# Altium footprint library Sheye-Connector.PcbLib: 137 footprints (part 5 of 9)
Each footprint in its own frame and in the unit in brackets; x right, y up, seen from the top. Pads: shape width x height; smd on the part's side, far side on the other; paste and mask are expansions set on the pad; w line width, h text height; cw(c..) or ccw(c..) is an arc to the next point about the centre after c.
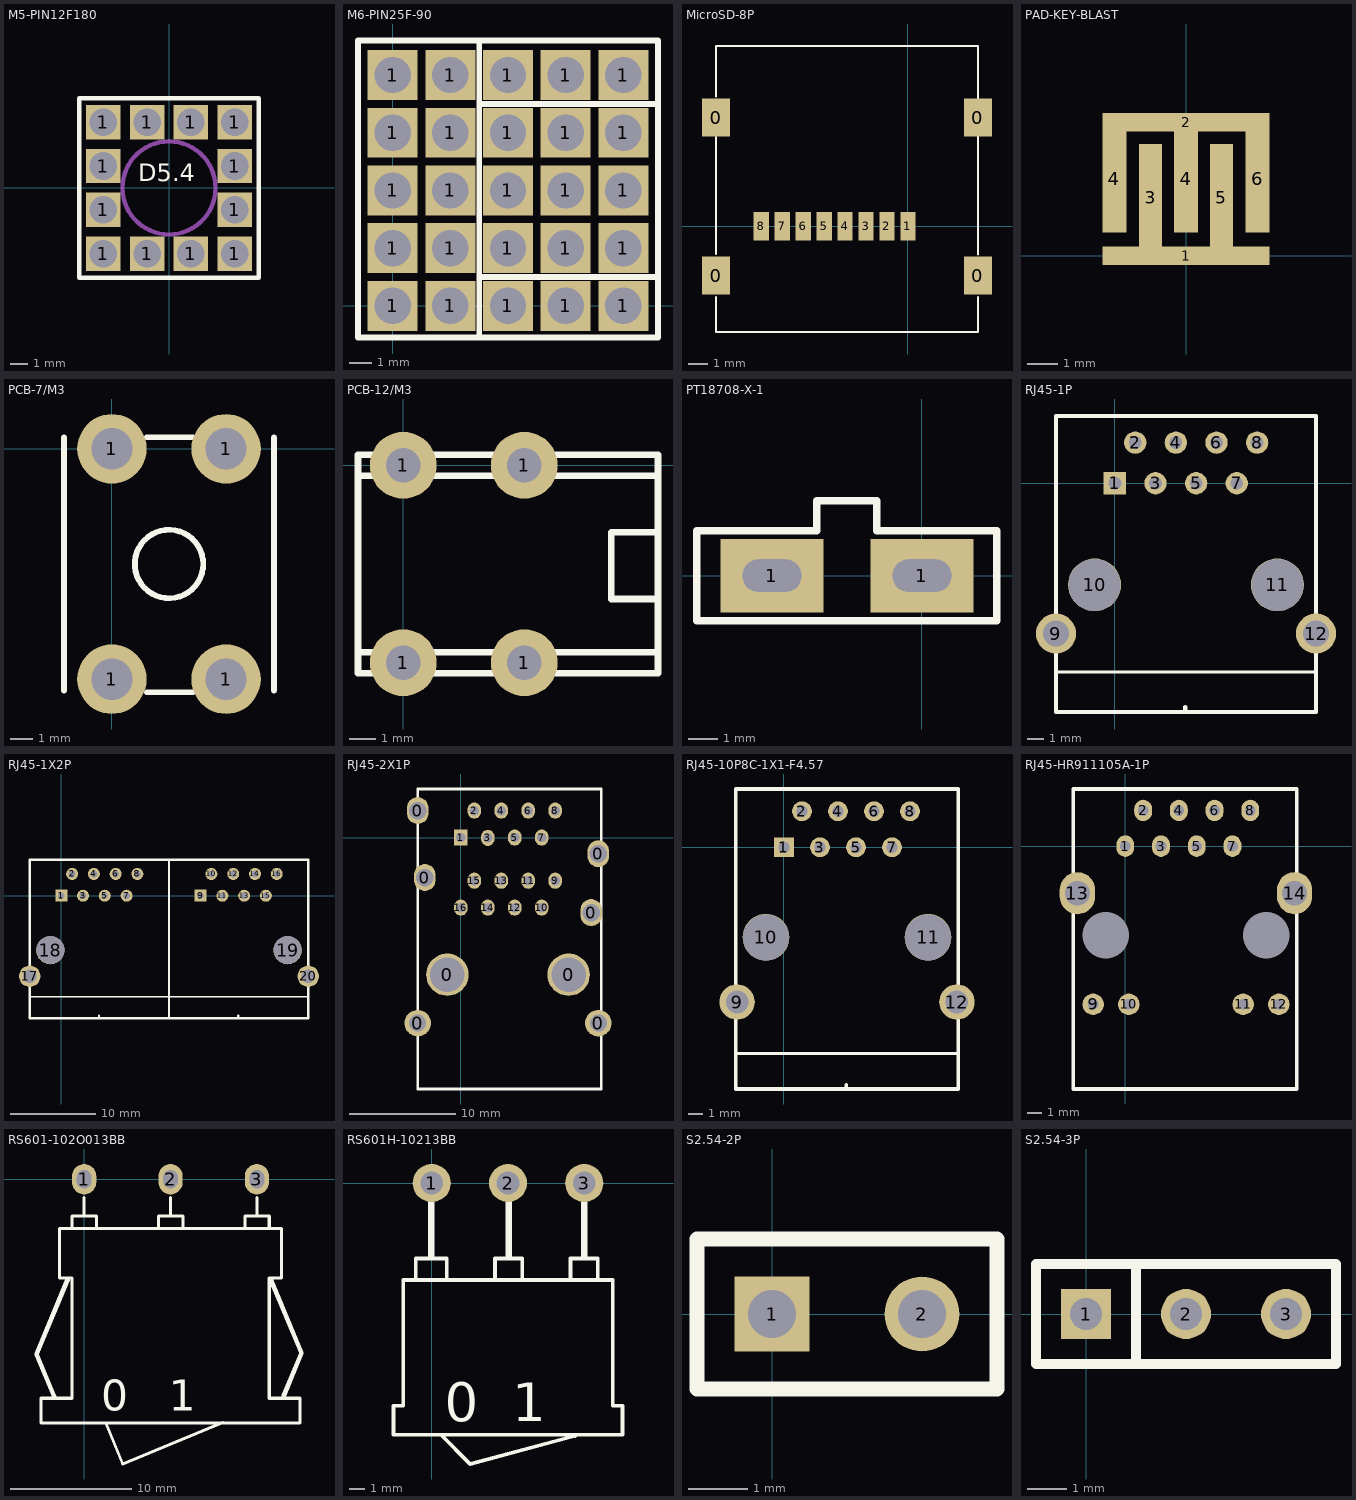
[diagram p4: the footprints below, top view; thin cyan lines are the x and y axes]

## M5-PIN12F180 [mm] "PCB焊接导电螺栓"
pads (12):
  rect 2x2 hole 1.6: 1(-3.81,-3.81) 1(-3.81,-1.27) 1(-3.81,1.27) 1(-3.81,3.81) 1(-1.27,-3.81) 1(-1.27,3.81) 1(1.27,-3.81) 1(1.27,3.81) 1(3.81,-3.81) 1(3.81,-1.27) 1(3.81,1.27) 1(3.81,3.81)
Top Overlay:
  lines w0.254: -5.207,-5.207 -5.207,5.207 5.207,5.207 5.207,-5.207 -5.207,-5.207
  text "D5.4" at -1.778,0.381 h1.02
Bottom Solder:
  region: -4.826,4.953 -4.826,2.667 4.826,2.667 4.826,4.953
  region: -2.667,4.953 -4.953,4.953 -4.953,-4.953 -2.667,-4.953
  region: 4.953,-4.953 4.953,-2.667 -4.953,-2.667 -4.953,-4.953
  rectangle: 2.667,-4.953 4.953,4.953
Mechanical 1:
  circle w0.254: c0,0 r2.7
  text "CUT" at -1.27,-1.397 h1.02
Multi-Layer:
  region: 4.826,4.826 2.794,4.826 2.794,-4.826 4.826,-4.826
  region: -2.794,4.826 -4.826,4.826 -4.826,-4.826 -2.794,-4.826
  region: 4.826,-4.826 4.826,-2.794 -4.826,-2.794 -4.826,-4.826
  rectangle: -4.826,2.794 4.826,4.826
3D body: height 6, standoff 0, extent -4.826,-4.826 4.826,4.826
3D body: height 3.5, standoff -3.5, extent -4.381,-4.318 -3.238,-3.302
3D body: height 3.5, standoff -3.5, extent -1.841,-4.318 -0.699,-3.302
3D body: height 3.5, standoff -3.5, extent 0.699,-4.318 1.841,-3.302
3D body: height 3.5, standoff -3.5, extent 3.238,-4.318 4.381,-3.302
3D body: height 3.5, standoff -3.5, extent 3.238,-1.778 4.381,-0.762
3D body: height 3.5, standoff -3.5, extent 3.238,0.762 4.381,1.778
3D body: height 3.5, standoff -3.5, extent 3.238,3.302 4.381,4.318
3D body: height 3.5, standoff -3.5, extent 0.699,3.302 1.841,4.318
3D body: height 3.5, standoff -3.5, extent -1.841,3.302 -0.699,4.318
3D body: height 3.5, standoff -3.5, extent -4.381,3.302 -3.238,4.318
3D body: height 3.5, standoff -3.5, extent -4.381,0.762 -3.238,1.778
3D body: height 3.5, standoff -3.5, extent -4.381,-1.778 -3.238,-0.762

## M6-PIN25F-90 [mm] "PCB焊接导电螺栓"
pads (25):
  rect 2.2x2.2 hole 1.6: 1(0,0) 1(0,2.54) 1(0,5.08) 1(0,7.62) 1(0,10.16) 1(2.54,0) 1(2.54,2.54) 1(2.54,5.08) 1(2.54,7.62) 1(2.54,10.16) 1(5.08,0) 1(5.08,2.54) 1(5.08,5.08) 1(5.08,7.62) 1(5.08,10.16) 1(7.62,0) 1(7.62,2.54) 1(7.62,5.08) 1(7.62,7.62) 1(7.62,10.16) 1(10.16,0) 1(10.16,2.54) 1(10.16,5.08) 1(10.16,7.62) 1(10.16,10.16)
Top Overlay:
  lines w0.254: 3.81,-1.397 3.81,11.684 ; 3.81,1.27 11.557,1.27 ; 3.81,8.89 11.684,8.89 ; -1.524,-1.397 -1.524,11.684 11.684,11.684 11.684,-1.397 -1.524,-1.397
3D body: height 20, standoff -3.5, extent -1.316,-1.397 11.684,11.603

## MicroSD-8P [mm]
pads (12):
  rect 1.45x2 smd: 0(-10.075,-2.6) 0(-10.075,5.7) 0(3.675,-2.6) 0(3.675,5.7)
  rect 0.8x1.5 smd: 1(0,0) 2(-1.1,0) 3(-2.2,0) 4(-3.3,0) 5(-4.4,0) 6(-5.5,0) 7(-6.6,0) 8(-7.7,0)
Top Overlay:
  lines w0.1: -10.075,-3.725 -10.075,-5.55 3.675,-5.55 3.675,-3.716 ; -10.075,-1.473 -10.075,4.674 ; -10.075,6.816 -10.075,9.45 3.675,9.45 3.675,6.7 ; 3.675,-1.499 3.675,4.699

## PAD-KEY-BLAST [mil]
pads (7):
  rect 216.54x23.62 smd: 1(0,0)
  rect 216.54x23.62 smd paste+0: 2(0,173.23)
  rect 29.5x140 smd: 3(-46,75) 5(46,75)
  rect 31x140 smd: 4(-93,100) 4(0,100) 6(93,100)
Top Solder:
  rectangle: -112.27,5 112.27,160

## PCB-7/M3 [mil] "PCB焊接端子"
pads (4):
  round 120 hole 70.87: 1(0,-397.64) 1(0,0) 1(196.85,-397.64) 1(196.85,0)
Top Overlay:
  circle w10: c98.43,-198.82 r59.06
  lines w10: -82.68,-417.32 -82.68,19.68 ; 60,-420 140,-420 ; 60,20 140,20 ; 279.53,-417.32 279.53,19.68
3D body: height 334.65, standoff 0, extent -85,-420 280,20

## PCB-12/M3 [mil]
pads (4):
  round 100 hole 52: 1(0,-295.28) 1(0,0) 1(181.1,-295.28) 1(181.1,0)
Top Overlay:
  lines w10: -67.72,-279.53 381.1,-279.53 ; -67.72,-15.75 381.1,-15.75 ; 381.1,-200 311.02,-200 311.02,-100 331.02,-100 381.1,-100 ; -67.72,-311.02 -67.72,15.75 381.1,15.75 381.1,-311.02 -67.72,-311.02
3D body: height 314.96, standoff 0, extent -70,-295 380,0

## PT18708-X-1 [mm]
height 22.7
pads (2):
  rect 3.5x2.5 hole 1.1 slot 2 at 0 deg: 1(-5.08,0) 1(0,0)
Top Overlay:
  lines w0.254: -7.62,-1.524 2.54,-1.524 2.54,1.524 -1.524,1.524 -1.524,2.54 -3.556,2.54 -3.556,1.524 -7.62,1.524 -7.62,-1.524
3D body: height 3, standoff 0, extent -3.429,0.635 -1.651,1.651
3D body: height 8, standoff 0, extent -5.08,-0.635 0,0.635
3D body: height 2, standoff 0, extent -6.858,-0.635 1.778,0.635

## RJ45-1P [mil] "RJ45-1"
pads (12):
  rect 55x55 hole 31.5: 1(0,0)
  round 55 hole 31.5: 2(50,100) 3(100,0) 4(150,100) 5(200,0) 6(250,100) 7(300,0) 8(350,100)
  round 98.42 hole 62.99: 9(-145,-370) 12(495,-370)
  round 130 hole 127.95 unplated: 10(-50,-250) 11(400,-250)
Top Overlay:
  lines w8: -141.73,-464.57 488.19,-464.57
  lines w10: 173.23,-559.06 173.23,-551.18 ; 495,165 495,-370 495,-562.99 -145,-562.99 -145,-370 -145,165 -144.65,165.35 495,165.35
3D body: height 127.85, standoff -555.12, extent -139.92,-556.17 490,172.17

## RJ45-1X2P [mil] "RJ45-1x2"
pads (20):
  rect 55x55 hole 31.5: 1(0,0) 9(640,0)
  round 55 hole 31.5: 2(50,100) 3(100,0) 4(150,100) 5(200,0) 6(250,100) 7(300,0) 8(350,100) 10(690,100) 11(740,0) 12(790,100) 13(840,0) 14(890,100) 15(940,0) 16(990,100)
  round 98.42 hole 62.99: 17(-145,-370) 20(1135,-370)
  round 130 hole 127.95 unplated: 18(-50,-250) 19(1040,-250)
Top Overlay:
  lines w8: -141.73,-464.57 488.19,-464.57 ; 498.27,-464.57 1128.19,-464.57
  lines w10: 173.23,-559.06 173.23,-551.18 ; 495,165.35 -144.65,165.35 -145,165 -145,-370 -145,-562.99 495,-562.99 ; 813.23,-559.06 813.23,-551.18 ; 1135,165 1135,-370 1135,-562.99 495,-562.99 ; 1135,165.35 495.35,165.35 495,165 ; 495,-562.99 495,-370 ; 495,-562.99 495,-370 ; 495,-370 495,165 ; 495,-370 495,165
3D body: height 127.85, standoff -555.12, extent 500.08,-556.17 1130,172.17
3D body: height 127.85, standoff -555.12, extent -139.92,-556.17 490,172.17

## RJ45-2X1P [mil] "RJ45-2x1"
pads (24):
  round 98.43 hole 62.99: 0(-159.84,-688.58) 0(509.84,-688.58)
  oval 80x100 hole 65: 0(-159.84,100) 0(-133.66,-148.43) 0(483.66,-278.35) 0(509.84,-59.84)
  round 157.48 hole 127.95: 0(-50,-508.66) 0(400,-508.66)
  rect 50x60 hole 35: 1(0,0)
  oval 50x60 hole 35: 2(50,100) 3(100,-1.34) 4(150,100) 5(200,0) 6(250,100) 7(300,0) 8(350,100) 9(350,-160) 10(300,-260) 11(250,-160) 12(200,-260) 13(150,-160) 14(100,-260) 15(50,-160) 16(0,-260)
Top Overlay:
  lines w10: -159.84,-930.24 -159.84,180 520.87,180 520.87,-930.24 ; 140.16,-932.68 -159.84,-932.68 520.87,-932.68
3D body: height 994.09, standoff 0, extent -163.7,-925.12 517.01,185.12

## RJ45-10P8C-1X1-F4.57 [mil] "东莞迅旺 1X1 8PIN脚 非隔离不带灯XW-902-59-B-1"
pads (12):
  rect 55x55 hole 31.5: 1(0,0)
  round 55 hole 31.5: 2(50,100) 3(100,0) 4(150,100) 5(200,0) 6(250,100) 7(300,0) 8(350,100)
  round 98.42 hole 62.99: 9(-130.12,-429.92) 12(480.12,-429.92)
  round 130 hole 127.95 unplated: 10(-50,-250) 11(400,-250)
Top Overlay:
  lines w8: -134.06,-572.83 481.89,-572.83
  lines w10: 173.23,-667.32 173.23,-659.45 ; -134.06,161.46 -133.7,161.81 ; -134.06,161.46 -134.06,-370 -134.06,-671.26 484.06,-671.26 484.06,-370 484.06,161.81 -133.7,161.81 ; -134.06,161.46 -133.7,161.81
3D body: height 127.85, standoff -555.12, extent -139.92,-556.17 490,172.17

## RJ45-HR911105A-1P [mil] "RJ45-HR911105A"
pads (16):
  oval 50x60 hole 30: 1(0,0) 2(50,100) 3(100,0) 4(150,100) 5(200,0) 6(250,100) 7(300,0) 8(350,100)
  round 60 hole 30: 9(-90,-442.91) 10(10,-442.91) 11(330,-442.91) 12(430,-442.91)
  oval 99.37x118.11 hole 69.37: 13(-133.94,-131.81)
  oval 98.43x118.11 hole 69.37: 14(473.94,-131.81)
  round 60 hole 129.92: ""(-55,-250) ""(395,-250)
Top Overlay:
  lines w10: -145.43,-680 479.57,-680 479.57,160 -145.43,160 -145.43,-680
3D body: height 127.85, standoff -555.12, extent -140.83,-558.35 489.09,170

## RS601-102O013BB [mm]
height 0.025
pads (3):
  oval 2x2.5 hole 1.2 slot 1.5 at 91 deg: 1(0,0) 2(7.112,0) 3(14.224,0)
Top Overlay:
  lines w0.254: -0.986,-4.064 -0.986,-3.048 1.016,-3.048 1.016,-4.064 ; 0,-3.048 0,-1.524 ; 1.778,-20.066 3.179,-23.448 11.417,-20.035 ; 6.126,-4.064 6.126,-3.048 8.128,-3.048 8.128,-4.064 ; 7.112,-3.048 7.112,-1.524 ; 13.238,-4.064 13.238,-3.048 15.24,-3.048 15.24,-4.064 ; 14.224,-3.048 14.224,-1.524 ; -3.556,-20.066 17.78,-20.066 17.78,-18.034 15.24,-18.034 15.24,-8.128 16.256,-8.128 16.256,-4.064 -2.032,-4.064 -2.032,-8.128 -1.016,-8.128 -1.016,-18.034 -3.556,-18.034 -3.556,-20.066
  lines w0.381: -2.486,-17.866 -3.917,-14.413 -1.359,-8.237 ; 15.375,-8.242 17.887,-14.307 16.428,-17.83
  text "0   1" at 1.397,-19.05 h2.54

## RS601H-10213BB [mm]
height 12.5
pads (3):
  round 2.5 hole 1.5: 1(0,0) 2(5,0) 3(10,0)
Top Overlay:
  lines w0.254: -1.875,-6.35 -1.875,-14.605 -2.51,-14.605 -2.51,-16.51 12.51,-16.51 12.51,-14.605 11.875,-14.605 11.875,-6.35 ; -1.811,-6.35 11.778,-6.35 ; -1.049,-6.35 -1.049,-4.953 0.983,-4.953 0.983,-6.35 ; 0.602,-16.51 2.52,-18.428 9.409,-16.582 ; 4.158,-6.35 4.158,-4.953 5.936,-4.953 5.936,-6.35 ; 9.111,-6.35 9.111,-4.953 10.889,-4.953 10.889,-6.35
  lines w0.4: -0.033,-4.826 -0.033,-1.27 ; 5.047,-4.826 5.047,-1.27 ; 10,-4.826 10,-1.27
  text "0  1" at 0.856,-15.621 h2.54

## S2.54-2P [mil]
pads (2):
  rect 50x50 hole 32: 1(0,0)
  round 50 hole 32: 2(100,0)
Top Overlay:
  lines w10: -50,-50 -50,50 150,50 150,-50 -50,-50
3D body: height 314.96, standoff -78.74, extent 84,-16 115.37,15.43
3D body: height 314.96, standoff -78.74, extent -16,-16 15.37,15.43
3D body: height 100, standoff 0, extent -50,-50 150,50

## S2.54-3P [mil] "P-SIP5"
pads (3):
  rect 50x50 hole 32: 1(0,0)
  round 50 hole 32: 2(100,0) 3(200,0)
Top Overlay:
  lines w10: 50,-50 50,50 ; -50,-50 -50,50 250,50 250,-50 -50,-50
3D body: height 314.96, standoff -78.74, extent 184,-16 215.37,15.43
3D body: height 314.96, standoff -78.74, extent 84,-16 115.37,15.43
3D body: height 314.96, standoff -78.74, extent -16,-16 15.37,15.43
3D body: height 100, standoff 0, extent -50,-50 250,50